# EAGLE library part XPORT-DIRECT (library Mikes-Stuff)
TCP/IP phy and stack module
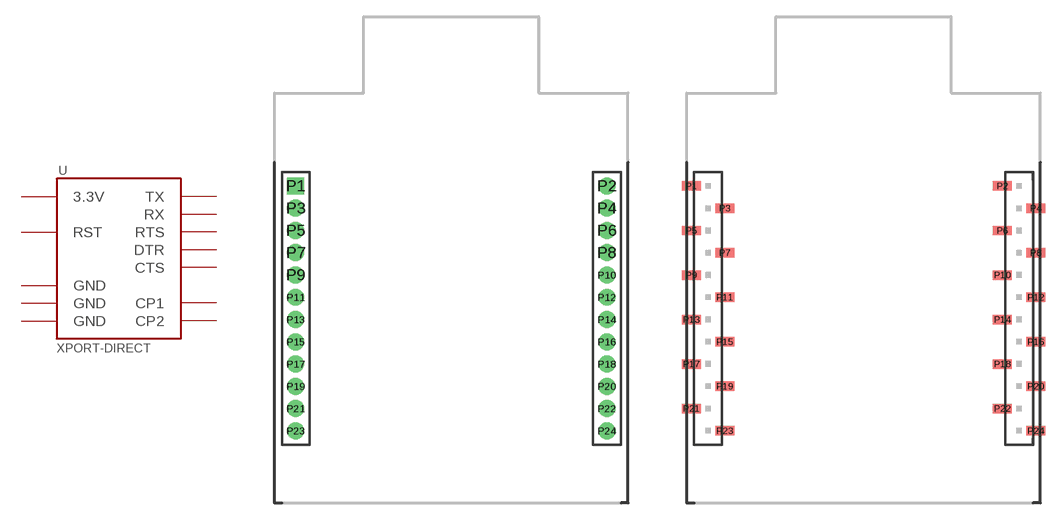
[diagram p7: symbol with the pads of XPORT_DIRECT_MODULE; footprints XPORT_DIRECT_MODULE, XPORT_DIRECT_MODULE-SMD]

Designator prefix -

## XPORT-DIRECT  [XPORT_DIRECT_MODULE]
P1  GND
P2  GND
P3  3.3V
P5  RST
P7  TX
P9  RX
P11  RTS
P13  DTR
P15  CTS
P21  CP2
P23  CP1
P24  GND

## XPORT-DIRECTSMD  [XPORT_DIRECT_MODULE-SMD]
Pads as for XPORT_DIRECT_MODULE

## Footprint XPORT_DIRECT_MODULE (pad centres in mm)
drill 0.8 pad 1.524 square: P1 -13.97,9.3
drill 0.8 pad 1.524: P2 13.97,9.3; P3 -13.97,7.3; P4 13.97,7.3; P5 -13.97,5.3; P6 13.97,5.3; P7 -13.97,3.3; P8 13.97,3.3; P9 -13.97,1.3; P10 13.97,1.3; P11 -13.97,-0.7; P12 13.97,-0.7; P13 -13.97,-2.7; P14 13.97,-2.7; P15 -13.97,-4.7; P16 13.97,-4.7; P17 -13.97,-6.7; P18 13.97,-6.7; P19 -13.97,-8.7; P20 13.97,-8.7; P21 -13.97,-10.7; P22 13.97,-10.7; P23 -13.97,-12.7; P24 13.97,-12.7

## Footprint XPORT_DIRECT_MODULE-SMD (pad centres in mm)
smd 1.7 x 0.85: P1 -15.472,9.294; P2 12.468,9.294; P3 -12.472,7.294; P4 15.468,7.294; P5 -15.472,5.293; P6 12.468,5.293; P7 -12.472,3.294; P8 15.468,3.294; P9 -15.472,1.293; P10 12.468,1.293; P11 -12.472,-0.707; P12 15.468,-0.707; P13 -15.472,-2.707; P14 12.468,-2.707; P15 -12.472,-4.707; P16 15.468,-4.707; P17 -15.472,-6.707; P18 12.468,-6.707; P19 -12.472,-8.707; P20 15.468,-8.707; P21 -15.472,-10.707; P22 12.468,-10.707; P23 -12.472,-12.707; P24 15.468,-12.707